# Altium schematic symbol library diode_2.Schlib: 1 symbol
Pins are listed as number, name and electrical type; pins without a type are passive.

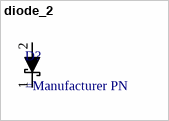
[diagram p0: symbol diode_2]

## diode_2
designator D?
Schottky Diode
pins: 1, 2